# EAGLE library part DOOBA_RIZON (library dooba)
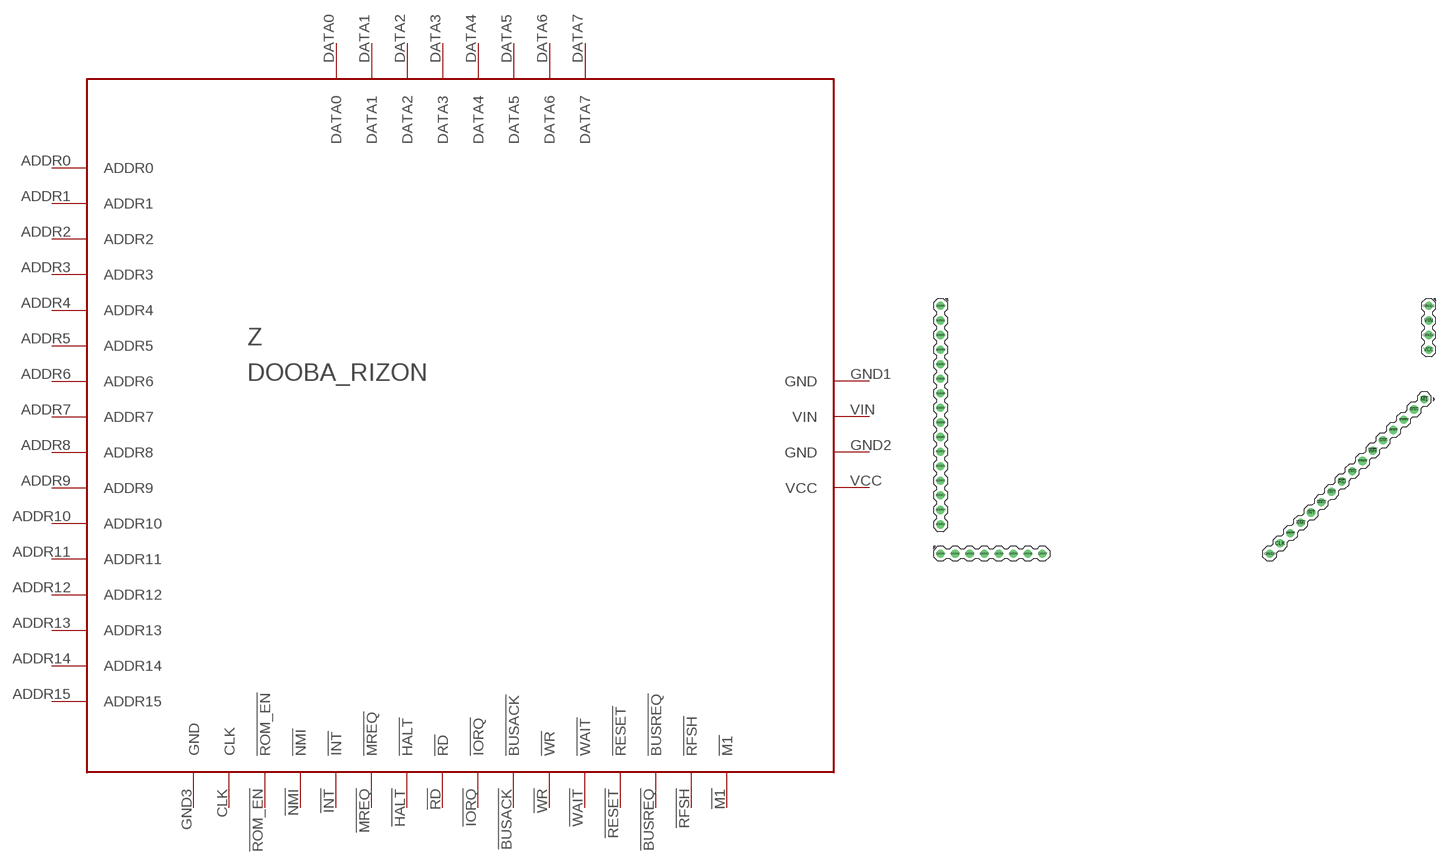
[diagram p61: symbol with the pads of DOOBA_RIZON; footprint DOOBA_RIZON]

Designator prefix Z

## DOOBA_RIZON  [DOOBA_RIZON]
!BUSACK  !BUSACK
!BUSREQ  !BUSREQ
!HALT  !HALT
!INT  !INT
!IORQ  !IORQ
!M1  !M1
!MREQ  !MREQ
!NMI  !NMI
!RD  !RD
!RESET  !RESET
!RFSH  !RFSH
!ROM_EN  !ROM_EN
!WAIT  !WAIT
!WR  !WR
ADDR0  ADDR0
ADDR1  ADDR1
ADDR2  ADDR2
ADDR3  ADDR3
ADDR4  ADDR4
ADDR5  ADDR5
ADDR6  ADDR6
ADDR7  ADDR7
ADDR8  ADDR8
ADDR9  ADDR9
ADDR10  ADDR10
ADDR11  ADDR11
ADDR12  ADDR12
ADDR13  ADDR13
ADDR14  ADDR14
ADDR15  ADDR15
CLK  CLK
DATA0  DATA0
DATA1  DATA1
DATA2  DATA2
DATA3  DATA3
DATA4  DATA4
DATA5  DATA5
DATA6  DATA6
DATA7  DATA7
GND1  GND
GND2  GND
GND3  GND
VCC  VCC
VIN  VIN

## Footprint DOOBA_RIZON (pad centres in mm)
drill 0.8 pad 1.422: !BUSACK 74.83,17.426; !BUSREQ 82.014,24.61; !HALT 69.442,12.038; !INT 65.85,8.446; !IORQ 73.034,15.63; !M1 85.606,28.202; !MREQ 67.646,10.242; !NMI 64.054,6.65; !RD 71.238,13.834; !RESET 80.218,22.814; !RFSH 83.81,26.406; !ROM_EN 62.258,4.854; !WAIT 78.422,21.018; !WR 76.626,19.222; ADDR0 1.27,44.45; ADDR1 1.27,41.91; ADDR2 1.27,39.37; ADDR3 1.27,36.83; ADDR4 1.27,34.29; ADDR5 1.27,31.75; ADDR6 1.27,29.21; ADDR7 1.27,26.67; ADDR8 1.27,24.13; ADDR9 1.27,21.59; ADDR10 1.27,19.05; ADDR11 1.27,16.51; ADDR12 1.27,13.97; ADDR13 1.27,11.43; ADDR14 1.27,8.89; ADDR15 1.27,6.35; CLK 60.462,3.058; DATA0 1.27,1.27; DATA1 3.81,1.27; DATA2 6.35,1.27; DATA3 8.89,1.27; DATA4 11.43,1.27; DATA5 13.97,1.27; DATA6 16.51,1.27; DATA7 19.05,1.27; GND1 86.36,44.45; GND2 86.36,39.37; GND3 58.666,1.262; VCC 86.36,36.83; VIN 86.36,41.91